# EAGLE library part XMOS_SLOT (library jt-con-pcie)
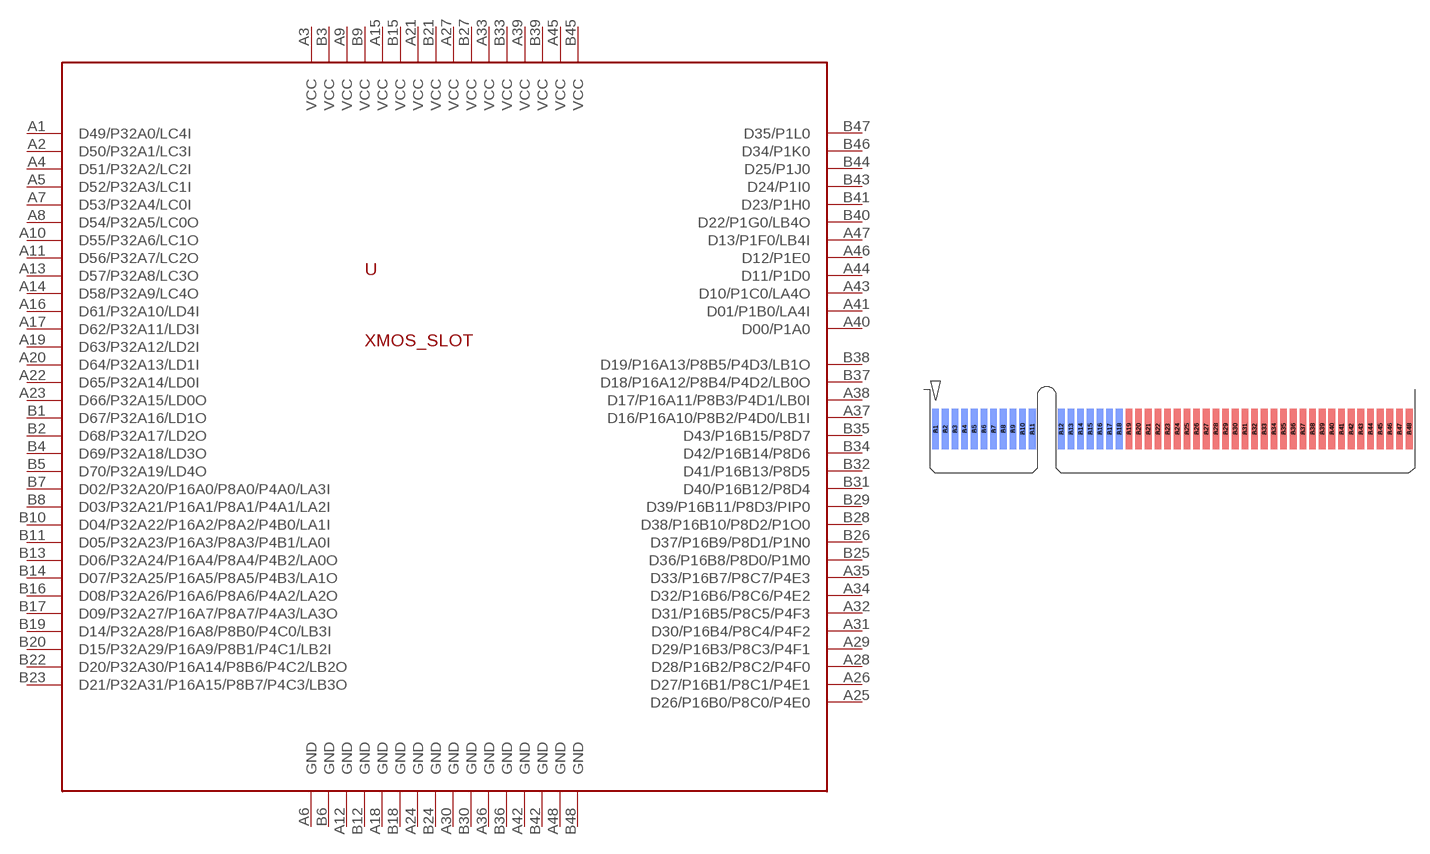
[diagram p3: symbol with the pads of PCIE-98-EDGE; footprint PCIE-98-EDGE]

Designator prefix -

## XMOS_SLOT  [PCIE-98-EDGE]
A1  D49/P32A0/LC4I
A2  D50/P32A1/LC3I
A3  VCC
A4  D51/P32A2/LC2I
A5  D52/P32A3/LC1I
A6  GND
A7  D53/P32A4/LC0I
A8  D54/P32A5/LC0O
A9  VCC
A10  D55/P32A6/LC1O
A11  D56/P32A7/LC2O
A12  GND
A13  D57/P32A8/LC3O
A14  D58/P32A9/LC4O
A15  VCC
A16  D61/P32A10/LD4I
A17  D62/P32A11/LD3I
A18  GND
A19  D63/P32A12/LD2I
A20  D64/P32A13/LD1I
A21  VCC
A22  D65/P32A14/LD0I
A23  D66/P32A15/LD0O
A24  GND
A25  D26/P16B0/P8C0/P4E0
A26  D27/P16B1/P8C1/P4E1
A27  VCC
A28  D28/P16B2/P8C2/P4F0
A29  D29/P16B3/P8C3/P4F1
A30  GND
A31  D30/P16B4/P8C4/P4F2
A32  D31/P16B5/P8C5/P4F3
A33  VCC
A34  D32/P16B6/P8C6/P4E2
A35  D33/P16B7/P8C7/P4E3
A36  GND
A37  D16/P16A10/P8B2/P4D0/LB1I
A38  D17/P16A11/P8B3/P4D1/LB0I
A39  VCC
A40  D00/P1A0
A41  D01/P1B0/LA4I
A42  GND
A43  D10/P1C0/LA4O
A44  D11/P1D0
A45  VCC
A46  D12/P1E0
A47  D13/P1F0/LB4I
A48  GND
B1  D67/P32A16/LD1O
B2  D68/P32A17/LD2O
B3  VCC
B4  D69/P32A18/LD3O
B5  D70/P32A19/LD4O
B6  GND
B7  D02/P32A20/P16A0/P8A0/P4A0/LA3I
B8  D03/P32A21/P16A1/P8A1/P4A1/LA2I
B9  VCC
B10  D04/P32A22/P16A2/P8A2/P4B0/LA1I
B11  D05/P32A23/P16A3/P8A3/P4B1/LA0I
B12  GND
B13  D06/P32A24/P16A4/P8A4/P4B2/LA0O
B14  D07/P32A25/P16A5/P8A5/P4B3/LA1O
B15  VCC
B16  D08/P32A26/P16A6/P8A6/P4A2/LA2O
B17  D09/P32A27/P16A7/P8A7/P4A3/LA3O
B18  GND
B19  D14/P32A28/P16A8/P8B0/P4C0/LB3I
B20  D15/P32A29/P16A9/P8B1/P4C1/LB2I
B21  VCC
B22  D20/P32A30/P16A14/P8B6/P4C2/LB2O
B23  D21/P32A31/P16A15/P8B7/P4C3/LB3O
B24  GND
B25  D36/P16B8/P8D0/P1M0
B26  D37/P16B9/P8D1/P1N0
B27  VCC
B28  D38/P16B10/P8D2/P1O0
B29  D39/P16B11/P8D3/PIP0
B30  GND
B31  D40/P16B12/P8D4
B32  D41/P16B13/P8D5
B33  VCC
B34  D42/P16B14/P8D6
B35  D43/P16B15/P8D7
B36  GND
B37  D18/P16A12/P8B4/P4D2/LB0O
B38  D19/P16A13/P8B5/P4D3/LB1O
B39  VCC
B40  D22/P1G0/LB4O
B41  D23/P1H0
B42  GND
B43  D24/P1I0
B44  D25/P1J0
B45  VCC
B46  D34/P1K0
B47  D35/P1L0
B48  GND

## Footprint PCIE-98-EDGE (pad centres in mm)
smd 0.7 x 4.2 bottom: A1 1.2,4.79; A2 2.2,4.79; A3 3.2,4.79; A4 4.2,4.79; A5 5.2,4.79; A6 6.2,4.79; A7 7.2,4.79; A8 8.2,4.79; A9 9.2,4.79; A10 10.2,4.79; A11 11.2,4.79; A12 14.2,4.79; A13 15.2,4.79; A14 16.2,4.79; A15 17.2,4.79; A16 18.2,4.79; A17 19.2,4.79; A18 20.2,4.79; A19 21.2,4.79; A20 22.2,4.79; A21 23.2,4.79; A22 24.2,4.79; A23 25.2,4.79; A24 26.2,4.79; A25 27.2,4.79; A26 28.2,4.79; A27 29.2,4.79; A28 30.2,4.79; A29 31.2,4.79; A30 32.2,4.79; A31 33.2,4.79; A32 34.2,4.79; A33 35.2,4.79; A34 36.2,4.79; A35 37.2,4.79; A36 38.2,4.79; A37 39.2,4.79; A38 40.2,4.79; A39 41.2,4.79; A40 42.2,4.79; A41 43.2,4.79; A42 44.2,4.79; A43 45.2,4.79; A44 46.2,4.79; A45 47.2,4.79; A46 48.2,4.79; A47 49.2,4.79; A48 50.2,4.79
smd 0.7 x 4.2: B1 1.2,4.79; B2 2.2,4.79; B3 3.2,4.79; B4 4.2,4.79; B5 5.2,4.79; B6 6.2,4.79; B7 7.2,4.79; B8 8.2,4.79; B9 9.2,4.79; B10 10.2,4.79; B11 11.2,4.79; B12 14.2,4.79; B13 15.2,4.79; B14 16.2,4.79; B15 17.2,4.79; B16 18.2,4.79; B17 19.2,4.79; B18 20.2,4.79; B19 21.2,4.79; B20 22.2,4.79; B21 23.2,4.79; B22 24.2,4.79; B23 25.2,4.79; B24 26.2,4.79; B25 27.2,4.79; B26 28.2,4.79; B27 29.2,4.79; B28 30.2,4.79; B29 31.2,4.79; B30 32.2,4.79; B31 33.2,4.79; B32 34.2,4.79; B33 35.2,4.79; B34 36.2,4.79; B35 37.2,4.79; B36 38.2,4.79; B37 39.2,4.79; B38 40.2,4.79; B39 41.2,4.79; B40 42.2,4.79; B41 43.2,4.79; B42 44.2,4.79; B43 45.2,4.79; B44 46.2,4.79; B45 47.2,4.79; B46 48.2,4.79; B47 49.2,4.79; B48 50.2,4.79